# Altium schematic symbol library Diodes.SchLib: 1 symbol
Pins are listed as number, name and electrical type; pins without a type are passive.

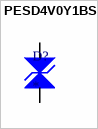
[diagram p0: symbol PESD4V0Y1BSF]

## PESD4V0Y1BSF
designator D?
footprint DFN40P60X32-2M (DFN, 2-Leads, Body 0.30x0.60mm, Pitch 0.40mm, IPC Low Density)
pins: 1, 2